# Altium schematic symbol library 功率器件&栅极驱动.SchLib: 3 symbols
Pins are listed as number, name and electrical type; pins without a type are passive.

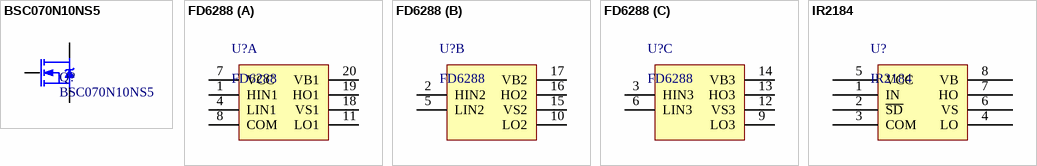
[diagram p0: symbols BSC070N10NS5 to IR2184]

## BSC070N10NS5
designator Q?
NMOS / Vds = 100V / Id = 80A / Rds = 7mΩ / Qg = 30nC
footprint TDSON-8
pins: D, G, S

## FD6288
designator U?
三相半桥驱动
footprint TSSOP20_L (6.5*6.4*1（长宽高）)
part A pins: 1 HIN1, 4 LIN1, 7 VCC, 8 COM, 11 LO1, 18 VS1, 19 HO1, 20 VB1
part B pins: 2 HIN2, 5 LIN2, 10 LO2, 15 VS2, 16 HO2, 17 VB2
part C pins: 3 HIN3, 6 LIN3, 9 LO3, 12 VS3, 13 HO3, 14 VB3

## IR2184
designator U?
半桥驱动
footprint SOP8_L (5*6*1.8mm（长宽高）)
pins: 1 IN, 2 ~{SD}, 3 COM, 4 LO, 5 VCC, 6 VS, 7 HO, 8 VB (power)